# EAGLE library part 8X8MATRIX (library led-8x8)
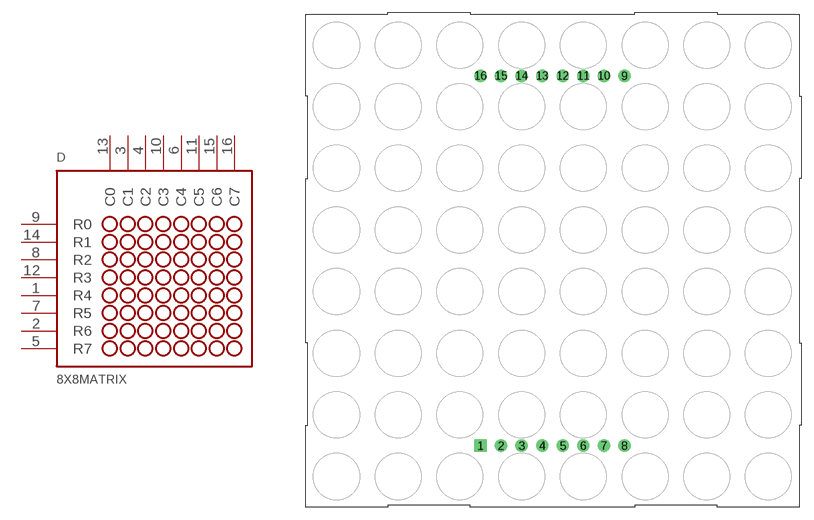
[diagram p0: symbol with the pads of 8X8MATRIX; footprint 8X8MATRIX]

Designator prefix D

## 8X8MATRIX  [8X8MATRIX]
1  R4  out
2  R6  out
3  C1  in
4  C2  in
5  R7  out
6  C4  in
7  R5  out
8  R2  out
9  R0  out
10  C3  in
11  C5  in
12  R3  out
13  C0  in
14  R1  out
15  C6  in
16  C7  in

## Footprint 8X8MATRIX (pad centres in mm)
drill 1.016 square: 1 -8.89,-22.86
drill 1.016: 2 -6.35,-22.86; 3 -3.81,-22.86; 4 -1.27,-22.86; 5 1.27,-22.86; 6 3.81,-22.86; 7 6.35,-22.86; 8 8.89,-22.86; 9 8.89,22.86; 10 6.35,22.86; 11 3.81,22.86; 12 1.27,22.86; 13 -1.27,22.86; 14 -3.81,22.86; 15 -6.35,22.86; 16 -8.89,22.86